# Altium schematic symbol library CONN_JACK_STEREO_3.5MM_SPDT_RA.SchLib: 1 symbol
Pins are listed as number, name and electrical type; pins without a type are passive.

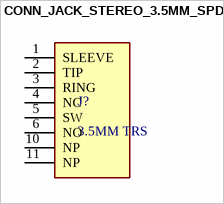
[diagram p0: symbol CONN_JACK_STEREO_3.5MM_SPDT_RA]

## CONN_JACK_STEREO_3.5MM_SPDT_RA
designator J?, comment 3.5MM TRS
3.50mm (0.141", 1/8", Mini Plug) - Headphone Phone Jack Stereo (3 Conductor, TRS) Connector Solder; Supplier 1: DigiKey; Supplier Part Number 1: CP-SJ-3566AN-ND; Supplier 2: DigiKey; Supplier Part Number 2: CP-SJ-3566AN-ND; Supplier 3: Mouser; Supplier Part Number 3: 490-SJ-3566AN
footprint CONN_JACK_STEREO_3.5MM_SPDT_RA
pins: 1 SLEEVE, 2 TIP, 3 RING, 4 NC, 5 SW, 6 NO, 10 NP, 11 NP